# EAGLE library part LINX-KH3-TRANSMITTER (library Linx-KH3-Transmitter)
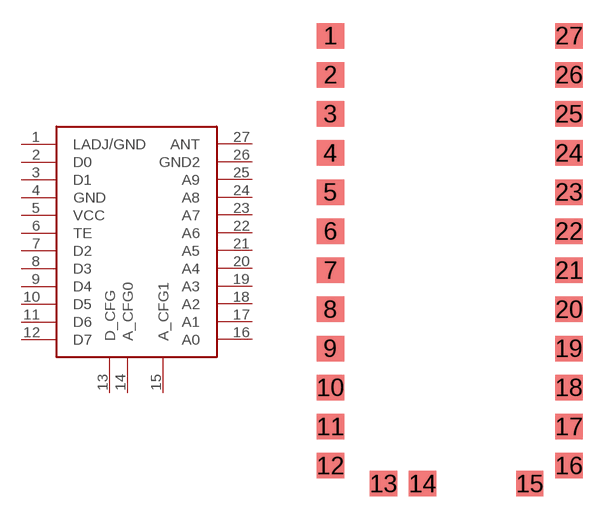
[diagram p0: symbol with the pads of LINX-KH3-TRANSMITTER; footprint LINX-KH3-TRANSMITTER]

Designator prefix -

## LINX-KH3-TRANSMITTER  [LINX-KH3-TRANSMITTER]
1  LADJ/GND
2  D0
3  D1
4  GND
5  VCC
6  TE
7  D2
8  D3
9  D4
10  D5
11  D6
12  D7
13  D_CFG
14  A_CFG0
15  A_CFG1
16  A0
17  A1
18  A2
19  A3
20  A4
21  A5
22  A6
23  A7
24  A8
25  A9
26  GND2
27  ANT

## Footprint LINX-KH3-TRANSMITTER (pad centres in mm)
smd 1.78 x 1.65: 1 -8,14.44; 2 -8,11.9; 3 -8,9.36; 4 -8,6.82; 5 -8,4.28; 6 -8,1.74; 7 -8,-0.8; 8 -8,-3.34; 9 -8,-5.88; 10 -8,-8.42; 11 -8,-10.96; 12 -8,-13.5; 13 -4.55,-14.67; 14 -2.01,-14.67; 15 4.95,-14.67; 16 7.49,-13.5; 17 7.49,-10.96; 18 7.49,-8.42; 19 7.49,-5.88; 20 7.49,-3.34; 21 7.49,-0.8; 22 7.49,1.74; 23 7.49,4.28; 24 7.49,6.82; 25 7.49,9.36; 26 7.49,11.9; 27 7.49,14.44